# Altium schematic symbol library E104-BT52.SchLib: 1 symbol
Pins are listed as number, name and electrical type; pins without a type are passive.

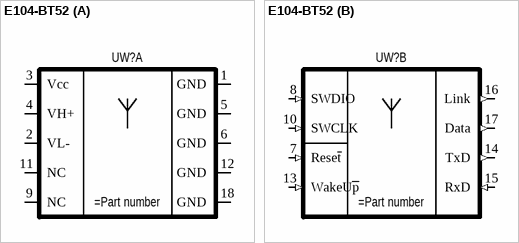
[diagram p0: symbol E104-BT52]

## E104-BT52
designator UW?
BLE5.0 low power SMD BLE to serial module
part A pins: 1 GND (power), 2 VL- (hiz), 3 Vcc (power), 4 VH+ (power), 5 GND (power), 6 GND (power), 9 NC (hiz), 11 NC (hiz), 12 GND (power), 18 GND (power)
part B pins: 7 Rese~{t} (in), 8 SWDIO (in), 10 SWCLK (in), 13 WakeU~{p} (in), 14 TxD (out), 15 RxD (in), 16 Link (out), 17 Data (out)